# Altium schematic symbol library TXB0101DRLR.Schlib: 1 symbol
Pins are listed as number, name and electrical type; pins without a type are passive.

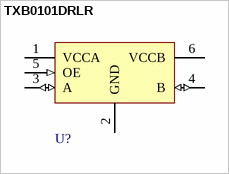
[diagram p0: symbol TXB0101DRLR]

## TXB0101DRLR
designator U?
1-Bit Bidirectional Level-Shifting
pins: 1 VCCA (power), 2 GND (power), 3 A (io), 4 B (io), 5 OE (in), 6 VCCB (power)